# Altium footprint library Wurth_Elektronik_Passive_rev16a.PCBLIB: 810 footprints (part 51 of 51)
Each footprint in its own frame and in the unit in brackets; x right, y up, seen from the top. Pads: shape width x height; smd on the part's side, far side on the other; paste and mask are expansions set on the pad; w line width, h text height; cw(c..) or ccw(c..) is an arc to the next point about the centre after c.
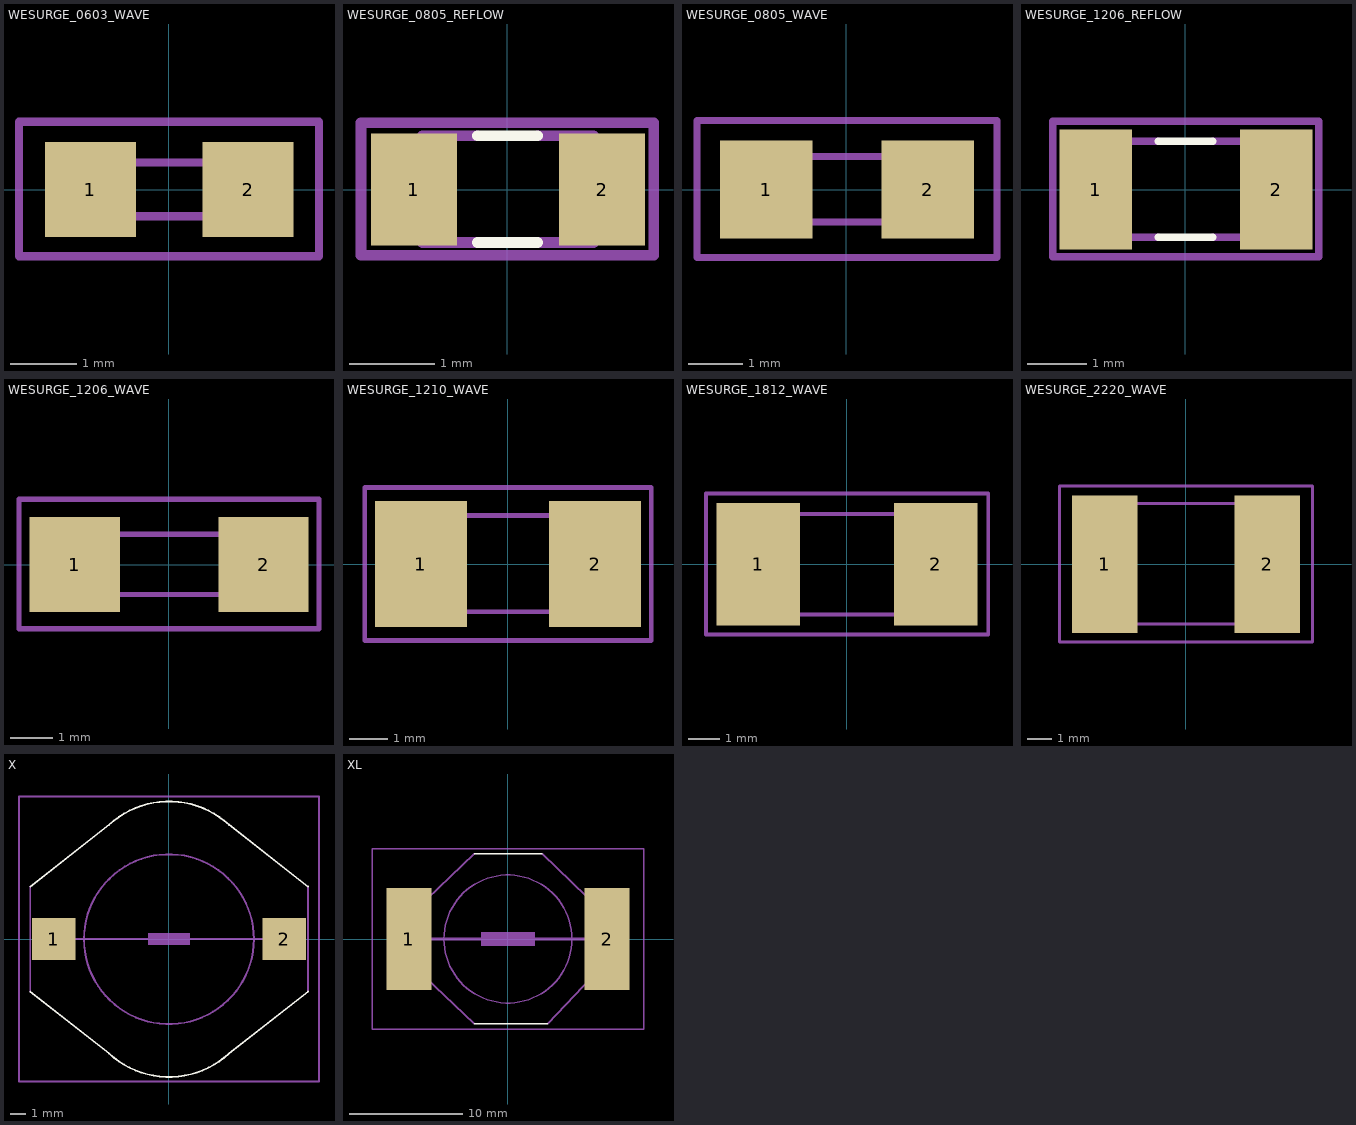
[diagram p50: the footprints below, top view; thin cyan lines are the x and y axes]

## WESURGE_0603_WAVE [mil]
pads (2):
  rect 54x56 smd: 1(-46.26,0) 2(47,0)
Mechanical 2:
  text ">NAME" at -90.55,-59.06 h15.5
Mechanical 4:
  text ">VALUE" at -94.49,48 h15.5
Mechanical 16:
  lines w5: -31.5,-15.75 32,-15.75 32,16 -31.5,16 -31.5,-15.75
Mechanical 27:
  lines w5: -88.58,-39.37 89,-39.37 89,40 -88.58,40 -88.58,-39.37

## WESURGE_0805_REFLOW [mil]
pads (2):
  rect 40x52 smd: 1(-43.31,0) 2(44,0)
Top Overlay:
  lines w5: -13.78,-24.61 14,-24.61 ; -13.78,25 14,25
Mechanical 2:
  text ">NAME" at -74.8,40 h15.5
Mechanical 4:
  text ">VALUE" at -74.8,-51.18 h15.5
Mechanical 16:
  lines w5: -13.78,-24.61 -39.37,-24.61 -39.37,25 -13.78,25 ; 14,-24.61 40,-24.61 40,25 14,25
Mechanical 27:
  lines w5: -67.91,-30.51 68,-30.51 68,31 -67.91,31 -67.91,-30.51

## WESURGE_0805_WAVE [mil]
pads (2):
  rect 67x71 smd: 1(-58.07,0) 2(59,0)
Mechanical 2:
  text ">NAME" at -110.24,-70.87 h24.8
Mechanical 4:
  text ">VALUE" at -110.24,60 h24.8
Mechanical 16:
  lines w5: -39.37,-23.62 40,-23.62 40,24 -39.37,24 -39.37,-23.62
Mechanical 27:
  lines w5: -108.27,-49.21 109,-49.21 109,50 -108.27,50 -108.27,-49.21

## WESURGE_1206_REFLOW [mil]
pads (2):
  rect 48x79 smd: 1(-59.06,0) 2(60,0)
Top Overlay:
  lines w5: -17.72,-31.5 18,-31.5 ; -17.72,32 18,32
Mechanical 2:
  text ">NAME" at -94.49,52 h15.5
Mechanical 4:
  text ">VALUE" at -94.49,-62.99 h15.5
Mechanical 16:
  lines w5: -17.72,-31.5 -62.99,-31.5 -62.99,32 -17.72,32 ; 18,-31.5 63,-31.5 63,32 18,32
Mechanical 27:
  lines w5: -87.6,-44.29 88,-44.29 88,45 -87.6,45 -87.6,-44.29

## WESURGE_1206_WAVE [mil]
pads (2):
  rect 83x87 smd: 1(-86.61,0) 2(87,0)
Mechanical 2:
  text ">NAME" at -125.98,-122.05 h77.5
Mechanical 4:
  text ">VALUE" at -125.98,71 h77.5
Mechanical 16:
  lines w5: -62.99,-27.56 63,-27.56 63,28 -62.99,28 -62.99,-27.56
Mechanical 27:
  lines w5: -137.8,-59.06 138,-59.06 138,60 -137.8,60 -137.8,-59.06

## WESURGE_1210_WAVE [mil]
pads (2):
  rect 95x130 smd: 1(-89.57,0) 2(90,0)
Mechanical 2:
  text ">NAME" at -133.86,-141.73 h77.5
Mechanical 4:
  text ">VALUE" at -133.86,91 h77.5
Mechanical 16:
  lines w5: -61.02,-49.21 -61.02,50 65,50 65,-49.21 -61.02,-49.21
Mechanical 27:
  lines w5: -147.64,-78.74 148,-78.74 148,79 -147.64,79 -147.64,-78.74

## WESURGE_1812_WAVE [mil]
pads (2):
  rect 105x154 smd: 1(-111.22,0) 2(112,0)
Mechanical 2:
  text ">NAME" at -137.8,-137.8 h77.5
Mechanical 4:
  text ">VALUE" at -137.8,89 h77.5
Mechanical 16:
  lines w5: -88.58,-62.99 89,-62.99 89,63 -88.58,63 -88.58,-62.99
Mechanical 27:
  lines w5: -177.17,-88.58 178,-88.58 178,89 -177.17,89 -177.17,-88.58

## WESURGE_2220_WAVE [mil]
pads (2):
  rect 107x225 smd: 1(-132.87,0) 2(133,0)
Mechanical 2:
  text ">NAME" at -118.11,-177.17 h77.5
Mechanical 4:
  text ">VALUE" at -118.11,138 h77.5
Mechanical 16:
  lines w5: -114.17,-98.43 -114.17,99 ; -112.2,-98.43 113,-98.43 ; -112.2,99 113,99 ; 115,-98.43 115,99
Mechanical 27:
  lines w5: -206.69,-127.95 207,-127.95 207,128 -206.69,128 -206.69,-127.95

## X [mil]
pads (2):
  rect 115x110 smd: 1(-302.56,0) 2(303,0)
Top Overlay:
  lines w5: -364.17,-137.8 -157.48,-300 ccw(c0.26,-129.64) 158,-300 365,-137.8 ; -364.17,138 -157.48,300 cw(c0.26,129.64) 158,300 365,138
Mechanical 2:
  text ">NAME" at -412.5,-462.5 h77.5
Mechanical 4:
  text ">VALUE" at -412.5,413 h77.5
Mechanical 10:
  circle w5: c0,0 r223
Mechanical 16:
  region: 55.69,-15.43 55.69,16.31 -55.43,16.31 -55.43,-15.43
  lines w5: -364.17,-137.8 -364.17,138 ; -302.56,0 303,0 ; 365,-137.8 365,138
Mechanical 27:
  lines w5: -393.7,-374.02 394,-374.02 394,375 -393.7,375 -393.7,-374.02

## XL [mil]
pads (2):
  rect 158x355 smd: 1(-344.49,0) 2(345,0)
Top Overlay:
  lines w5: -118.11,-295.28 138,-295.28 ; -118.11,296 119,296
Mechanical 2:
  text ">NAME" at -175,-400 h117.8
Mechanical 4:
  text ">VALUE" at -200,325 h117.8
Mechanical 10:
  circle w5: c0,0 r223
Mechanical 16:
  region: 94.93,-23.56 94.93,24.07 -94.56,24.07 -94.56,-23.56
  lines w5: -118.11,-295.28 -324.02,-98.43 ; -118.11,296 -324.02,99 ; 119,296 325,99 ; 138,-295.28 325,-98.43 ; -324.02,-98.43 -383.07,-98.43 -383.07,99 -324.02,99 ; -324.02,-98.43 -324.02,99 ; 325,-98.43 325,99 ; 325,-98.43 384,-98.43 384,99 325,99
  lines w12: -310.24,0 311,0
Mechanical 27:
  lines w5: -472.44,-314.96 473,-314.96 473,315 -472.44,315 -472.44,-314.96